# Altium schematic symbol library 1986ВЕ8Т.Schlib: 1 symbol
Pins are listed as number, name and electrical type; pins without a type are passive.

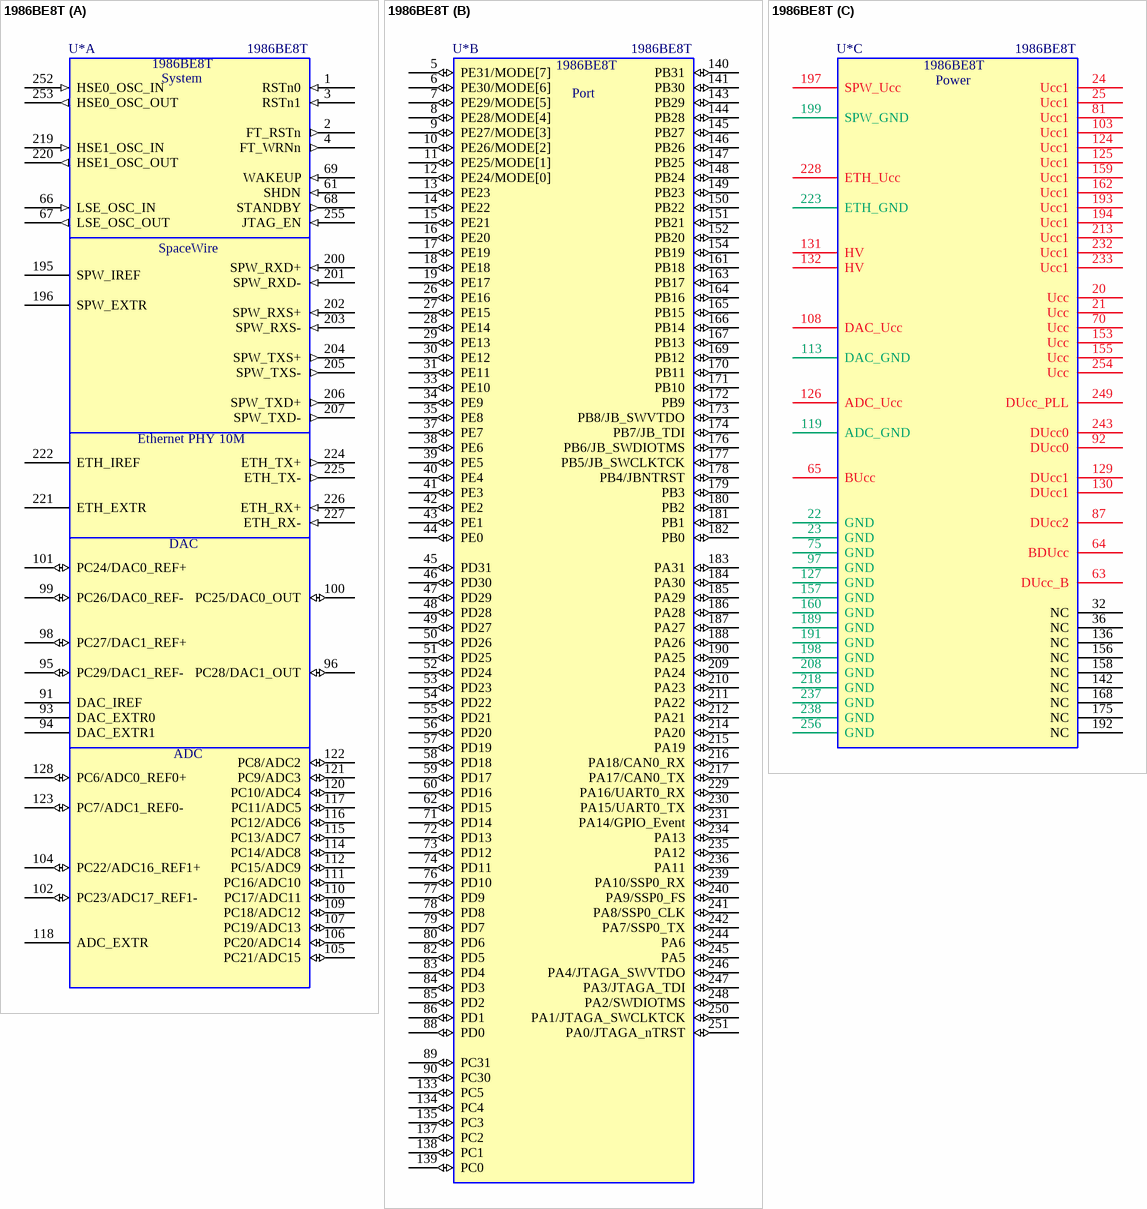
[diagram p0: symbol 1986ВЕ8Т]

## 1986ВЕ8Т
designator U*
Microcontroller, ARM Cortex-M4F 32b; Manufacturer: Milandr; Назначение: Микроконтроллер; Part: 1986ВЕ8Т; Package: 4244.256-3; Наименоване: 1986ВЕ8
footprint 4244.256-3
part A pins: 1 RSTn0 (in), 2 FT_RSTn (out), 3 RSTn1 (in), 4 FT_WRNn (out), 61 SHDN (in), 66 LSE_OSC_IN (in), 67 LSE_OSC_OUT (out), 68 STANDBY (out), 69 WAKEUP (in), 91 DAC_IREF, 93 DAC_EXTR0, 94 DAC_EXTR1, 95 PC29/DAC1_REF- (io), 96 PC28/DAC1_OUT (io), 98 PC27/DAC1_REF+ (io), 99 PC26/DAC0_REF- (io), 100 PC25/DAC0_OUT (io), 101 PC24/DAC0_REF+ (io), 102 PC23/ADC17_REF1- (io), 104 PC22/ADC16_REF1+ (io), 105 PC21/ADC15 (io), 106 PC20/ADC14 (io), 107 PC19/ADC13 (io), 109 PC18/ADC12 (io), 110 PC17/ADC11 (io), 111 PC16/ADC10 (io), 112 PC15/ADC9 (io), 114 PC14/ADC8 (io), 115 PC13/ADC7 (io), 116 PC12/ADC6 (io), 117 PC11/ADC5 (io), 118 ADC_EXTR, 120 PC10/ADC4 (io), 121 PC9/ADC3 (io), 122 PC8/ADC2 (io), 123 PC7/ADC1_REF0- (io), 128 PC6/ADC0_REF0+ (io), 195 SPW_IREF, 196 SPW_EXTR, 200 SPW_RXD+ (in), 201 SPW_RXD- (in), 202 SPW_RXS+ (in), 203 SPW_RXS- (in), 204 SPW_TXS+ (out), 205 SPW_TXS- (out), 206 SPW_TXD+ (out), 207 SPW_TXD- (out), 219 HSE1_OSC_IN (in), 220 HSE1_OSC_OUT (out), 221 ETH_EXTR, 222 ETH_IREF, 224 ETH_TX+ (out), 225 ETH_TX- (out), 226 ETH_RX+ (in), 227 ETH_RX- (in), 252 HSE0_OSC_IN (in), 253 HSE0_OSC_OUT (out), 255 JTAG_EN (in)
part B pins: 5 PE31/MODE[7] (io), 6 PE30/MODE[6] (io), 7 PE29/MODE[5] (io), 8 PE28/MODE[4] (io), 9 PE27/MODE[3] (io), 10 PE26/MODE[2] (io), 11 PE25/MODE[1] (io), 12 PE24/MODE[0] (io), 13 PE23 (io), 14 PE22 (io), 15 PE21 (io), 16 PE20 (io), 17 PE19 (io), 18 PE18 (io), 19 PE17 (io), 26 PE16 (io), 27 PE15 (io), 28 PE14 (io), 29 PE13 (io), 30 PE12 (io), 31 PE11 (io), 33 PE10 (io), 34 PE9 (io), 35 PE8 (io), 37 PE7 (io), 38 PE6 (io), 39 PE5 (io), 40 PE4 (io), 41 PE3 (io), 42 PE2 (io), 43 PE1 (io), 44 PE0 (io), 45 PD31 (io), 46 PD30 (io), 47 PD29 (io), 48 PD28 (io), 49 PD27 (io), 50 PD26 (io), 51 PD25 (io), 52 PD24 (io), 53 PD23 (io), 54 PD22 (io), 55 PD21 (io), 56 PD20 (io), 57 PD19 (io), 58 PD18 (io), 59 PD17 (io), 60 PD16 (io), 62 PD15 (io), 71 PD14 (io), 72 PD13 (io), 73 PD12 (io), 74 PD11 (io), 76 PD10 (io), 77 PD9 (io), 78 PD8 (io), 79 PD7 (io), 80 PD6 (io), 82 PD5 (io), 83 PD4 (io), 84 PD3 (io), 85 PD2 (io), 86 PD1 (io), 88 PD0 (io), 89 PC31 (io), 90 PC30 (io), 133 PC5 (io), 134 PC4 (io), 135 PC3 (io), 137 PC2 (io), 138 PC1 (io), 139 PC0 (io), 140 PB31 (io), 141 PB30 (io), 143 PB29 (io), 144 PB28 (io), 145 PB27 (io), 146 PB26 (io), 147 PB25 (io), 148 PB24 (io), 149 PB23 (io), 150 PB22 (io), 151 PB21 (io), 152 PB20 (io), 154 PB19 (io), 161 PB18 (io), 163 PB17 (io), 164 PB16 (io), 165 PB15 (io), 166 PB14 (io), 167 PB13 (io), 169 PB12 (io), 170 PB11 (io), 171 PB10 (io), 172 PB9 (io), 173 PB8/JB_SWVTDO (io), 174 PB7/JB_TDI (io), 176 PB6/JB_SWDIOTMS (io), 177 PB5/JB_SWCLKTCK (io), 178 PB4/JBNTRST (io), 179 PB3 (io), 180 PB2 (io), 181 PB1 (io), 182 PB0 (io), 183 PA31 (io), 184 PA30 (io), 185 PA29 (io), 186 PA28 (io), 187 PA27 (io), 188 PA26 (io), 190 PA25 (io), 209 PA24 (io), 210 PA23 (io), 211 PA22 (io), 212 PA21 (io), 214 PA20 (io), 215 PA19 (io), 216 PA18/CAN0_RX (io), 217 PA17/CAN0_TX (io), 229 PA16/UART0_RX (io), 230 PA15/UART0_TX (io), 231 PA14/GPIO_Event (io), 234 PA13 (io), 235 PA12 (io), 236 PA11 (io), 239 PA10/SSP0_RX (io), 240 PA9/SSP0_FS (io), 241 PA8/SSP0_CLK (io), 242 PA7/SSP0_TX (io), 244 PA6 (io), 245 PA5 (io), 246 PA4/JTAGA_SWVTDO (io), 247 PA3/JTAGA_TDI (io), 248 PA2/SWDIOTMS (io), 250 PA1/JTAGA_SWCLKTCK (io), 251 PA0/JTAGA_nTRST (io)
part C pins: 20 Ucc (power), 21 Ucc (power), 22 GND (power), 23 GND (power), 24 Ucc1 (power), 25 Ucc1 (power), 32 NC, 36 NC, 63 DUcc_B (power), 64 BDUcc (power), 65 BUcc (power), 70 Ucc (power), 75 GND (power), 81 Ucc1 (power), 87 DUcc2 (power), 92 DUcc0 (power), 97 GND (power), 103 Ucc1 (power), 108 DAC_Ucc (power), 113 DAC_GND (power), 119 ADC_GND (power), 124 Ucc1 (power), 125 Ucc1 (power), 126 ADC_Ucc (power), 127 GND (power), 129 DUcc1 (power), 130 DUcc1 (power), 131 HV (power), 132 HV (power), 136 NC, 142 NC, 153 Ucc (power), 155 Ucc (power), 156 NC, 157 GND (power), 158 NC, 159 Ucc1 (power), 160 GND (power), 162 Ucc1 (power), 168 NC, 175 NC, 189 GND (power), 191 GND (power), 192 NC, 193 Ucc1 (power), 194 Ucc1 (power), 197 SPW_Ucc (power), 198 GND (power), 199 SPW_GND (power), 208 GND (power), 213 Ucc1 (power), 218 GND (power), 223 ETH_GND (power), 228 ETH_Ucc (power), 232 Ucc1 (power), 233 Ucc1 (power), 237 GND (power), 238 GND (power), 243 DUcc0 (power), 249 DUcc_PLL (power), 254 Ucc (power), 256 GND (power)
part A text: 1986BE8T; System; SpaceWire; Ethernet PHY 10M; DAC; ADC
part B text: 1986BE8T; Port
part C text: 1986BE8T; Power